# Altium schematic symbol library WE-VD.SchLib: 78 symbols (part 1 of 2)
Pins are listed as number, name and electrical type; pins without a type are passive.

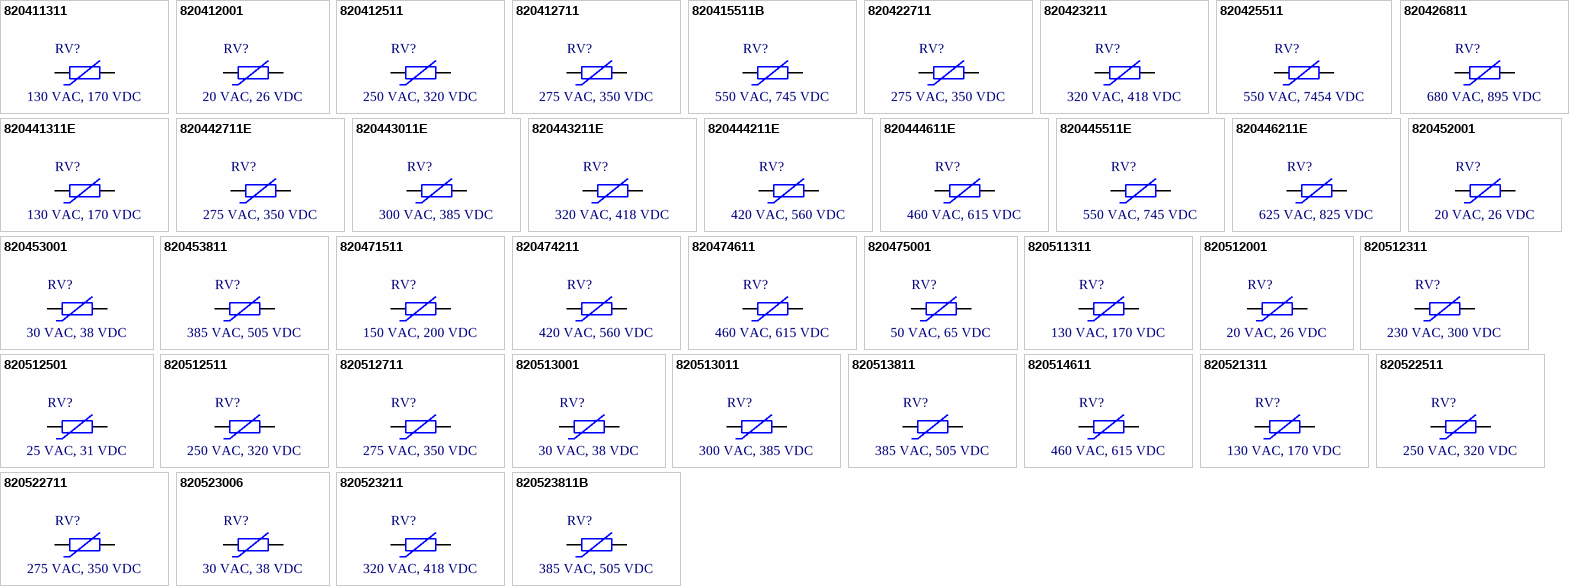
[diagram p0: symbols 820411311 to 820523811B]

## 820411311
designator RV?, comment 130 VAC, 170 VDC
WE-VD Disk Varistor, D12.5 x H15.5 mm, 130 VAC, 170 VDC; Manufacturer Part Number: 820411311; Manufacturer: Wurth Elektronik; Channel Input Capacitance: 410 pF; Clamping Voltage: 340 V; Energy Absorption: 35 J; Operating Voltage (AC): 130 V; Operating Voltage (DC): 170 V; Power Dissipation: 0.4 W; (Reverse) Breakdown Voltage: 200 V; (Reverse) Peak Pulse Current: 3500 A; Category: Surge Protection; Match Code: WE-VD; ComponentLink1Description: Website Link; ComponentLink1URL: https://www.we-online.com/redexpert/article/820411311?ad; ComponentLink2Description: Datasheet Link; ComponentLink2URL: https://www.we-online.com/redexpert/spec/820411311?ad; Mount: Through Hole; Min Operating Temperature: -40 °C; Max Operating Temperature: 105 °C; Packaging: Tape and Reel; Width: 4.6 mm; Height: 15.5 mm; Diameter: 12.5 mm
footprint D12.5W4.6H15.5P0.8
pins: 1, 2

## 820412001
designator RV?, comment 20 VAC, 26 VDC
WE-VD Disk Varistor, D12.5 x H15.5 mm, 20 VAC, 26 VDC; Manufacturer Part Number: 820412001; Manufacturer: Wurth Elektronik; Channel Input Capacitance: 4250 pF; Clamping Voltage: 65 V; Energy Absorption: 4.8 J; Operating Voltage (AC): 20 V; Operating Voltage (DC): 26 V; Power Dissipation: 0.05 W; (Reverse) Breakdown Voltage: 33 V; (Reverse) Peak Pulse Current: 1000 A; Category: Surge Protection; Match Code: WE-VD; ComponentLink1Description: Website Link; ComponentLink1URL: https://www.we-online.com/redexpert/article/820412001?ad; ComponentLink2Description: Datasheet Link; ComponentLink2URL: https://www.we-online.com/redexpert/spec/820412001?ad; Mount: Through Hole; Min Operating Temperature: -40 °C; Max Operating Temperature: 105 °C; Packaging: Tape and Reel; Width: 5.1 mm; Height: 15.5 mm; Diameter: 12.5 mm
footprint D12.5W5.1H15.5P0.8
pins: 1, 2

## 820412511
designator RV?, comment 250 VAC, 320 VDC
WE-VD Disk Varistor, D12.5 x H16 mm, 250 VAC, 320 VDC; Manufacturer Part Number: 820412511; Manufacturer: Wurth Elektronik; Channel Input Capacitance: 210 pF; Clamping Voltage: 650 V; Energy Absorption: 70 J; Operating Voltage (AC): 250 V; Operating Voltage (DC): 320 V; Power Dissipation: 0.4 W; (Reverse) Breakdown Voltage: 390 V; (Reverse) Peak Pulse Current: 3500 A; Category: Surge Protection; Match Code: WE-VD; ComponentLink1Description: Website Link; ComponentLink1URL: https://www.we-online.com/redexpert/article/820412511?ad; ComponentLink2Description: Datasheet Link; ComponentLink2URL: https://www.we-online.com/redexpert/spec/820412511?ad; Mount: Through Hole; Min Operating Temperature: -40 °C; Max Operating Temperature: 105 °C; Packaging: Tape and Reel; Width: 5.7 mm; Height: 16 mm; Diameter: 12.5 mm
footprint D12.5W5.7H16P1.1
pins: 1, 2

## 820412711
designator RV?, comment 275 VAC, 350 VDC
WE-VD Disk Varistor, D12.5 x H16 mm, 275 VAC, 350 VDC; Manufacturer Part Number: 820412711; Manufacturer: Wurth Elektronik; Channel Input Capacitance: 190 pF; Clamping Voltage: 710 V; Energy Absorption: 80 J; Operating Voltage (AC): 275 V; Operating Voltage (DC): 350 V; Power Dissipation: 0.4 W; (Reverse) Breakdown Voltage: 430 V; (Reverse) Peak Pulse Current: 3500 A; Category: Surge Protection; Match Code: WE-VD; ComponentLink1Description: Website Link; ComponentLink1URL: https://www.we-online.com/redexpert/article/820412711?ad; ComponentLink2Description: Datasheet Link; ComponentLink2URL: https://www.we-online.com/redexpert/spec/820412711?ad; Mount: Through Hole; Min Operating Temperature: -40 °C; Max Operating Temperature: 105 °C; Packaging: Tape and Reel; Width: 6.5 mm; Height: 16 mm; Diameter: 12.5 mm
footprint D12.5W6.5H16P1.3
pins: 1, 2

## 820415511B
designator RV?, comment 550 VAC, 745 VDC
WE-VD Disk Varistor, D12.5 x H16.5 mm, 550 VAC, 745 VDC; Manufacturer Part Number: 820415511B; Manufacturer: Wurth Elektronik; Channel Input Capacitance: 95 pF; Clamping Voltage: 1500 V; Energy Absorption: 127 J; Operating Voltage (AC): 550 V; Operating Voltage (DC): 745 V; Power Dissipation: 0.4 W; (Reverse) Breakdown Voltage: 910 V; (Reverse) Peak Pulse Current: 3500 A; Category: Surge Protection; Match Code: WE-VD; ComponentLink1Description: Website Link; ComponentLink1URL: https://www.we-online.com/redexpert/article/820415511B?ad; ComponentLink2Description: Datasheet Link; ComponentLink2URL: https://www.we-online.com/redexpert/spec/820415511B?ad; Mount: Through Hole; Min Operating Temperature: -40 °C; Max Operating Temperature: 105 °C; Packaging: Tape and Reel; Width: 9.4 mm; Height: 16.5 mm; Diameter: 12.5 mm
footprint D12.5W9.4H16.5P3.6
pins: 1, 2

## 820422711
designator RV?, comment 275 VAC, 350 VDC
WE-VD Disk Varistor, D23 x H26.5 mm, 275 VAC, 350 VDC; Manufacturer Part Number: 820422711; Manufacturer: Wurth Elektronik; Channel Input Capacitance: 860 pF; Clamping Voltage: 710 V; Energy Absorption: 303 J; Operating Voltage (AC): 275 V; Operating Voltage (DC): 350 V; Power Dissipation: 1 W; (Reverse) Breakdown Voltage: 430 V; (Reverse) Peak Pulse Current: 10000 A; Category: Surge Protection; Match Code: WE-VD; ComponentLink1Description: Website Link; ComponentLink1URL: https://www.we-online.com/redexpert/article/820422711?ad; ComponentLink2Description: Datasheet Link; ComponentLink2URL: https://www.we-online.com/redexpert/spec/820422711?ad; Mount: Through Hole; Min Operating Temperature: -40 °C; Max Operating Temperature: 105 °C; Packaging: Tape and Reel; Width: 7.2 mm; Height: 26.5 mm; Diameter: 23 mm
footprint D23W7.2H26.5P1.1
pins: 1, 2

## 820423211
designator RV?, comment 320 VAC, 418 VDC
WE-VD Disk Varistor, D23 x H27 mm, 320 VAC, 418 VDC; Manufacturer Part Number: 820423211; Manufacturer: Wurth Elektronik; Channel Input Capacitance: 760 pF; Clamping Voltage: 842 V; Energy Absorption: 382 J; Operating Voltage (AC): 320 V; Operating Voltage (DC): 418 V; Power Dissipation: 1 W; (Reverse) Breakdown Voltage: 510 V; (Reverse) Peak Pulse Current: 10000 A; Category: Surge Protection; Match Code: WE-VD; ComponentLink1Description: Website Link; ComponentLink1URL: https://www.we-online.com/redexpert/article/820423211?ad; ComponentLink2Description: Datasheet Link; ComponentLink2URL: https://www.we-online.com/redexpert/spec/820423211?ad; Mount: Through Hole; Min Operating Temperature: -40 °C; Max Operating Temperature: 105 °C; Packaging: Tape and Reel; Width: 7.7 mm; Height: 27 mm; Diameter: 23 mm
footprint D23W7.7H27P1.5
pins: 1, 2

## 820425511
designator RV?, comment 550 VAC, 7454 VDC
WE-VD Disk Varistor, D23 x H27 mm, 550 VAC, 7454 VDC; Manufacturer Part Number: 820425511; Manufacturer: Wurth Elektronik; Channel Input Capacitance: 430 pF; Clamping Voltage: 1500 V; Energy Absorption: 510 J; Operating Voltage (AC): 550 V; Operating Voltage (DC): 7454 V; Power Dissipation: 1 W; (Reverse) Breakdown Voltage: 910 V; (Reverse) Peak Pulse Current: 10000 A; Category: Surge Protection; Match Code: WE-VD; ComponentLink1Description: Website Link; ComponentLink1URL: https://www.we-online.com/redexpert/article/820425511?ad; ComponentLink2Description: Datasheet Link; ComponentLink2URL: https://www.we-online.com/redexpert/spec/820425511?ad; Mount: Through Hole; Min Operating Temperature: -40 °C; Max Operating Temperature: 105 °C; Packaging: Tape and Reel; Width: 10.1 mm; Height: 27 mm; Diameter: 23 mm
footprint D23W10.1H27P3.4
pins: 1, 2

## 820426811
designator RV?, comment 680 VAC, 895 VDC
WE-VD Disk Varistor, D23 x H27 mm, 680 VAC, 895 VDC; Manufacturer Part Number: 820426811; Manufacturer: Wurth Elektronik; Channel Input Capacitance: 360 pF; Clamping Voltage: 1815 V; Energy Absorption: 620 J; Operating Voltage (AC): 680 V; Operating Voltage (DC): 895 V; Power Dissipation: 1 W; (Reverse) Breakdown Voltage: 1100 V; (Reverse) Peak Pulse Current: 10000 A; Category: Surge Protection; Match Code: WE-VD; ComponentLink1Description: Website Link; ComponentLink1URL: https://www.we-online.com/redexpert/article/820426811?ad; ComponentLink2Description: Datasheet Link; ComponentLink2URL: https://www.we-online.com/redexpert/spec/820426811?ad; Mount: Through Hole; Min Operating Temperature: -40 °C; Max Operating Temperature: 105 °C; Packaging: Tape and Reel; Width: 11.2 mm; Height: 27 mm; Diameter: 23 mm
footprint D23W11.2H27P4.3
pins: 1, 2

## 820441311E
designator RV?, comment 130 VAC, 170 VDC
WE-VD Disk Varistor, D16.5 x H19.5 mm, 130 VAC, 170 VDC; Manufacturer Part Number: 820441311E; Manufacturer: Wurth Elektronik; Channel Input Capacitance: 840 pF; Clamping Voltage: 340 V; Energy Absorption: 70 J; Operating Voltage (AC): 130 V; Operating Voltage (DC): 170 V; Power Dissipation: 0.6 W; (Reverse) Breakdown Voltage: 200 V; (Reverse) Peak Pulse Current: 6000 A; Category: Surge Protection; Match Code: WE-VD; ComponentLink1Description: Website Link; ComponentLink1URL: https://www.we-online.com/redexpert/article/820441311E?ad; ComponentLink2Description: Datasheet Link; ComponentLink2URL: https://www.we-online.com/redexpert/spec/820441311E?ad; Mount: Through Hole; Min Operating Temperature: -40 °C; Max Operating Temperature: 105 °C; Packaging: Tape and Reel; Width: 4.8 mm; Height: 19.5 mm; Diameter: 16.5 mm
footprint D16.5W4.8H19.5P0.8
pins: 1, 2

## 820442711E
designator RV?, comment 275 VAC, 350 VDC
WE-VD Disk Varistor, D16.5 x H20 mm, 275 VAC, 350 VDC; Manufacturer Part Number: 820442711E; Manufacturer: Wurth Elektronik; Channel Input Capacitance: 450 pF; Clamping Voltage: 710 V; Energy Absorption: 155 J; Operating Voltage (AC): 275 V; Operating Voltage (DC): 350 V; Power Dissipation: 0.6 W; (Reverse) Breakdown Voltage: 430 V; (Reverse) Peak Pulse Current: 6000 A; Category: Surge Protection; Match Code: WE-VD; ComponentLink1Description: Website Link; ComponentLink1URL: https://www.we-online.com/redexpert/article/820442711E?ad; ComponentLink2Description: Datasheet Link; ComponentLink2URL: https://www.we-online.com/redexpert/spec/820442711E?ad; Mount: Through Hole; Min Operating Temperature: -40 °C; Max Operating Temperature: 105 °C; Packaging: Tape and Reel; Width: 6.7 mm; Height: 20 mm; Diameter: 16.5 mm
footprint D16.5W6.7H20P1.3
pins: 1, 2

## 820443011E
designator RV?, comment 300 VAC, 385 VDC
WE-VD Disk Varistor, D16.5 x H20 mm, 300 VAC, 385 VDC; Manufacturer Part Number: 820443011E; Manufacturer: Wurth Elektronik; Channel Input Capacitance: 420 pF; Clamping Voltage: 775 V; Energy Absorption: 175 J; Operating Voltage (AC): 300 V; Operating Voltage (DC): 385 V; Power Dissipation: 0.6 W; (Reverse) Breakdown Voltage: 470 V; (Reverse) Peak Pulse Current: 6000 A; Category: Surge Protection; Match Code: WE-VD; ComponentLink1Description: Website Link; ComponentLink1URL: https://www.we-online.com/redexpert/article/820443011E?ad; ComponentLink2Description: Datasheet Link; ComponentLink2URL: https://www.we-online.com/redexpert/spec/820443011E?ad; Mount: Through Hole; Min Operating Temperature: -40 °C; Max Operating Temperature: 105 °C; Packaging: Tape and Reel; Width: 7 mm; Height: 20 mm; Diameter: 16.5 mm
footprint D16.5W7H20P1.5
pins: 1, 2

## 820443211E
designator RV?, comment 320 VAC, 418 VDC
WE-VD Disk Varistor, D16.5 x H20.5 mm, 320 VAC, 418 VDC; Manufacturer Part Number: 820443211E; Manufacturer: Wurth Elektronik; Channel Input Capacitance: 370 pF; Clamping Voltage: 842 V; Energy Absorption: 190 J; Operating Voltage (AC): 320 V; Operating Voltage (DC): 418 V; Power Dissipation: 0.6 W; (Reverse) Breakdown Voltage: 510 V; (Reverse) Peak Pulse Current: 6000 A; Category: Surge Protection; Match Code: WE-VD; ComponentLink1Description: Website Link; ComponentLink1URL: https://www.we-online.com/redexpert/article/820443211E?ad; ComponentLink2Description: Datasheet Link; ComponentLink2URL: https://www.we-online.com/redexpert/spec/820443211E?ad; Mount: Through Hole; Min Operating Temperature: -40 °C; Max Operating Temperature: 105 °C; Packaging: Tape and Reel; Width: 7.2 mm; Height: 20.5 mm; Diameter: 16.5 mm
footprint D16.5W7.2H20.5P1.6
pins: 1, 2

## 820444211E
designator RV?, comment 420 VAC, 560 VDC
WE-VD Disk Varistor, D16.5 x H20.5 mm, 420 VAC, 560 VDC; Manufacturer Part Number: 820444211E; Manufacturer: Wurth Elektronik; Channel Input Capacitance: 290 pF; Clamping Voltage: 1120 V; Energy Absorption: 225 J; Operating Voltage (AC): 420 V; Operating Voltage (DC): 560 V; Power Dissipation: 0.6 W; (Reverse) Breakdown Voltage: 680 V; (Reverse) Peak Pulse Current: 6000 A; Category: Surge Protection; Match Code: WE-VD; ComponentLink1Description: Website Link; ComponentLink1URL: https://www.we-online.com/redexpert/article/820444211E?ad; ComponentLink2Description: Datasheet Link; ComponentLink2URL: https://www.we-online.com/redexpert/spec/820444211E?ad; Mount: Through Hole; Min Operating Temperature: -40 °C; Max Operating Temperature: 105 °C; Packaging: Tape and Reel; Width: 8.2 mm; Height: 20.5 mm; Diameter: 16.5 mm
footprint D16.5W8.2H20.5P2.5
pins: 1, 2

## 820444611E
designator RV?, comment 460 VAC, 615 VDC
WE-VD Disk Varistor, D16.5 x H20.5 mm, 460 VAC, 615 VDC; Manufacturer Part Number: 820444611E; Manufacturer: Wurth Elektronik; Channel Input Capacitance: 270 pF; Clamping Voltage: 1240 V; Energy Absorption: 230 J; Operating Voltage (AC): 460 V; Operating Voltage (DC): 615 V; Power Dissipation: 0.6 W; (Reverse) Breakdown Voltage: 750 V; (Reverse) Peak Pulse Current: 6000 A; Category: Surge Protection; Match Code: WE-VD; ComponentLink1Description: Website Link; ComponentLink1URL: https://www.we-online.com/redexpert/article/820444611E?ad; ComponentLink2Description: Datasheet Link; ComponentLink2URL: https://www.we-online.com/redexpert/spec/820444611E?ad; Mount: Through Hole; Min Operating Temperature: -40 °C; Max Operating Temperature: 105 °C; Packaging: Tape and Reel; Width: 8.6 mm; Height: 20.5 mm; Diameter: 16.5 mm
footprint D16.5W8.6H20.5P2.8
pins: 1, 2

## 820445511E
designator RV?, comment 550 VAC, 745 VDC
WE-VD Disk Varistor, D16.5 x H20.5 mm, 550 VAC, 745 VDC; Manufacturer Part Number: 820445511E; Manufacturer: Wurth Elektronik; Channel Input Capacitance: 240 pF; Clamping Voltage: 1500 V; Energy Absorption: 255 J; Operating Voltage (AC): 550 V; Operating Voltage (DC): 745 V; Power Dissipation: 0.6 W; (Reverse) Breakdown Voltage: 910 V; (Reverse) Peak Pulse Current: 6000 A; Category: Surge Protection; Match Code: WE-VD; ComponentLink1Description: Website Link; ComponentLink1URL: https://www.we-online.com/redexpert/article/820445511E?ad; ComponentLink2Description: Datasheet Link; ComponentLink2URL: https://www.we-online.com/redexpert/spec/820445511E?ad; Mount: Through Hole; Min Operating Temperature: -40 °C; Max Operating Temperature: 105 °C; Packaging: Tape and Reel; Width: 9.6 mm; Height: 20.5 mm; Diameter: 16.5 mm
footprint D16.5W9.6H20.5P3.6
pins: 1, 2

## 820446211E
designator RV?, comment 625 VAC, 825 VDC
WE-VD Disk Varistor, D16.5 x H20.5 mm, 625 VAC, 825 VDC; Manufacturer Part Number: 820446211E; Manufacturer: Wurth Elektronik; Channel Input Capacitance: 200 pF; Clamping Voltage: 1650 V; Energy Absorption: 283 J; Operating Voltage (AC): 625 V; Operating Voltage (DC): 825 V; Power Dissipation: 0.6 W; (Reverse) Breakdown Voltage: 1000 V; (Reverse) Peak Pulse Current: 6000 A; Category: Surge Protection; Match Code: WE-VD; ComponentLink1Description: Website Link; ComponentLink1URL: https://www.we-online.com/redexpert/article/820446211E?ad; ComponentLink2Description: Datasheet Link; ComponentLink2URL: https://www.we-online.com/redexpert/spec/820446211E?ad; Mount: Through Hole; Min Operating Temperature: -40 °C; Max Operating Temperature: 105 °C; Packaging: Tape and Reel; Width: 10.1 mm; Height: 20.5 mm; Diameter: 16.5 mm
footprint D16.5W10.1H20.5P4
pins: 1, 2

## 820452001
designator RV?, comment 20 VAC, 26 VDC
WE-VD Disk Varistor, D7.5 x H10.5 mm, 20 VAC, 26 VDC; Manufacturer Part Number: 820452001; Manufacturer: Wurth Elektronik; Channel Input Capacitance: 880 pF; Clamping Voltage: 73 V; Energy Absorption: 1.3 J; Operating Voltage (AC): 20 V; Operating Voltage (DC): 26 V; Power Dissipation: 0.01 W; (Reverse) Breakdown Voltage: 33 V; (Reverse) Peak Pulse Current: 250 A; Category: Surge Protection; Match Code: WE-VD; ComponentLink1Description: Website Link; ComponentLink1URL: https://www.we-online.com/redexpert/article/820452001?ad; ComponentLink2Description: Datasheet Link; ComponentLink2URL: https://www.we-online.com/redexpert/spec/820452001?ad; Mount: Through Hole; Min Operating Temperature: -40 °C; Max Operating Temperature: 105 °C; Packaging: Tape and Reel; Width: 4.7 mm; Height: 10.5 mm; Diameter: 7.5 mm
footprint D7.5W4.7H10.5P0.8
pins: 1, 2

## 820453001
designator RV?, comment 30 VAC, 38 VDC
WE-VD Disk Varistor, D7.5 x H10.5 mm, 30 VAC, 38 VDC; Manufacturer Part Number: 820453001; Manufacturer: Wurth Elektronik; Channel Input Capacitance: 720 pF; Clamping Voltage: 104 V; Energy Absorption: 1.8 J; Operating Voltage (AC): 30 V; Operating Voltage (DC): 38 V; Power Dissipation: 0.01 W; (Reverse) Breakdown Voltage: 47 V; (Reverse) Peak Pulse Current: 250 A; Category: Surge Protection; Match Code: WE-VD; ComponentLink1Description: Website Link; ComponentLink1URL: https://www.we-online.com/redexpert/article/820453001?ad; ComponentLink2Description: Datasheet Link; ComponentLink2URL: https://www.we-online.com/redexpert/spec/820453001?ad; Mount: Through Hole; Min Operating Temperature: -40 °C; Max Operating Temperature: 105 °C; Packaging: Tape and Reel; Width: 5 mm; Height: 10.5 mm; Diameter: 7.5 mm
footprint D7.5W5H10.5P0.8
pins: 1, 2

## 820453811
designator RV?, comment 385 VAC, 505 VDC
WE-VD Disk Varistor, D7.5 x H11.5 mm, 385 VAC, 505 VDC; Manufacturer Part Number: 820453811; Manufacturer: Wurth Elektronik; Channel Input Capacitance: 45 pF; Clamping Voltage: 1050 V; Energy Absorption: 27 J; Operating Voltage (AC): 385 V; Operating Voltage (DC): 505 V; Power Dissipation: 0.1 W; (Reverse) Breakdown Voltage: 620 V; (Reverse) Peak Pulse Current: 800 A; Category: Surge Protection; Match Code: WE-VD; ComponentLink1Description: Website Link; ComponentLink1URL: https://www.we-online.com/redexpert/article/820453811?ad; ComponentLink2Description: Datasheet Link; ComponentLink2URL: https://www.we-online.com/redexpert/spec/820453811?ad; Mount: Through Hole; Min Operating Temperature: -40 °C; Max Operating Temperature: 105 °C; Packaging: Tape and Reel; Width: 7.2 mm; Height: 11.5 mm; Diameter: 7.5 mm
footprint D7.5W7.2H11.5P2.4
pins: 1, 2

## 820471511
designator RV?, comment 150 VAC, 200 VDC
WE-VD Disk Varistor, D9 x H12 mm, 150 VAC, 200 VDC; Manufacturer Part Number: 820471511; Manufacturer: Wurth Elektronik; Channel Input Capacitance: 180 pF; Clamping Voltage: 395 V; Energy Absorption: 21 J; Operating Voltage (AC): 150 V; Operating Voltage (DC): 200 V; Power Dissipation: 0.25 W; (Reverse) Breakdown Voltage: 240 V; (Reverse) Peak Pulse Current: 1750 A; Category: Surge Protection; Match Code: WE-VD; ComponentLink1Description: Website Link; ComponentLink1URL: https://www.we-online.com/redexpert/article/820471511?ad; ComponentLink2Description: Datasheet Link; ComponentLink2URL: https://www.we-online.com/redexpert/spec/820471511?ad; Mount: Through Hole; Min Operating Temperature: -40 °C; Max Operating Temperature: 105 °C; Packaging: Tape and Reel; Width: 4.4 mm; Height: 12 mm; Diameter: 9 mm
footprint D9W4.4H12P0.8
pins: 1, 2

## 820474211
designator RV?, comment 420 VAC, 560 VDC
WE-VD Disk Varistor, D9 x H13 mm, 420 VAC, 560 VDC; Manufacturer Part Number: 820474211; Manufacturer: Wurth Elektronik; Channel Input Capacitance: 78 pF; Clamping Voltage: 1120 V; Energy Absorption: 56 J; Operating Voltage (AC): 420 V; Operating Voltage (DC): 560 V; Power Dissipation: 0.25 W; (Reverse) Breakdown Voltage: 680 V; (Reverse) Peak Pulse Current: 1750 A; Category: Surge Protection; Match Code: WE-VD; ComponentLink1Description: Website Link; ComponentLink1URL: https://www.we-online.com/redexpert/article/820474211?ad; ComponentLink2Description: Datasheet Link; ComponentLink2URL: https://www.we-online.com/redexpert/spec/820474211?ad; Mount: Through Hole; Min Operating Temperature: -40 °C; Max Operating Temperature: 105 °C; Packaging: Tape and Reel; Width: 7.5 mm; Height: 13 mm; Diameter: 9 mm
footprint D9W7.5H13P2.7
pins: 1, 2

## 820474611
designator RV?, comment 460 VAC, 615 VDC
WE-VD Disk Varistor, D9 x H13 mm, 460 VAC, 615 VDC; Manufacturer Part Number: 820474611; Manufacturer: Wurth Elektronik; Channel Input Capacitance: 75 pF; Clamping Voltage: 1240 V; Energy Absorption: 58 J; Operating Voltage (AC): 460 V; Operating Voltage (DC): 615 V; Power Dissipation: 0.25 W; (Reverse) Breakdown Voltage: 750 V; (Reverse) Peak Pulse Current: 1750 A; Category: Surge Protection; Match Code: WE-VD; ComponentLink1Description: Website Link; ComponentLink1URL: https://www.we-online.com/redexpert/article/820474611?ad; ComponentLink2Description: Datasheet Link; ComponentLink2URL: https://www.we-online.com/redexpert/spec/820474611?ad; Mount: Through Hole; Min Operating Temperature: -40 °C; Max Operating Temperature: 105 °C; Packaging: Tape and Reel; Width: 7.9 mm; Height: 13 mm; Diameter: 9 mm
footprint D9W7.9H13P3
pins: 1, 2

## 820475001
designator RV?, comment 50 VAC, 65 VDC
WE-VD Disk Varistor, D9 x H12 mm, 50 VAC, 65 VDC; Manufacturer Part Number: 820475001; Manufacturer: Wurth Elektronik; Channel Input Capacitance: 640 pF; Clamping Voltage: 135 V; Energy Absorption: 7 J; Operating Voltage (AC): 50 V; Operating Voltage (DC): 65 V; Power Dissipation: 0.25 W; (Reverse) Breakdown Voltage: 82 V; (Reverse) Peak Pulse Current: 1750 A; Category: Surge Protection; Match Code: WE-VD; ComponentLink1Description: Website Link; ComponentLink1URL: https://www.we-online.com/redexpert/article/820475001?ad; ComponentLink2Description: Datasheet Link; ComponentLink2URL: https://www.we-online.com/redexpert/spec/820475001?ad; Mount: Through Hole; Min Operating Temperature: -40 °C; Max Operating Temperature: 105 °C; Packaging: Tape and Reel; Width: 3.8 mm; Height: 12 mm; Diameter: 9 mm
footprint D9W3.8H12P0.8
pins: 1, 2

## 820511311
designator RV?, comment 130 VAC, 170 VDC
WE-VD Disk Varistor, D12.5 x H15.5 mm, 130 VAC, 170 VDC; Manufacturer Part Number: 820511311; Manufacturer: Wurth Elektronik; Channel Input Capacitance: 410 pF; Clamping Voltage: 340 V; Energy Absorption: 28.5 J; Operating Voltage (AC): 130 V; Operating Voltage (DC): 170 V; Power Dissipation: 0.4 W; (Reverse) Breakdown Voltage: 200 V; (Reverse) Peak Pulse Current: 2500 A; Category: Surge Protection; Match Code: WE-VD; ComponentLink1Description: Website Link; ComponentLink1URL: https://www.we-online.com/redexpert/article/820511311?ad; ComponentLink2Description: Datasheet Link; ComponentLink2URL: https://www.we-online.com/redexpert/spec/820511311?ad; Mount: Through Hole; Min Operating Temperature: -40 °C; Max Operating Temperature: 105 °C; Packaging: Tape and Reel; Width: 4.6 mm; Height: 15.5 mm; Diameter: 12.5 mm
footprint D12.5W4.6H15.5P0.8
pins: 1, 2

## 820512001
designator RV?, comment 20 VAC, 26 VDC
WE-VD Disk Varistor, D12.5 x H15.5 mm, 20 VAC, 26 VDC; Manufacturer Part Number: 820512001; Manufacturer: Wurth Elektronik; Channel Input Capacitance: 4250 pF; Clamping Voltage: 65 V; Energy Absorption: 4.4 J; Operating Voltage (AC): 20 V; Operating Voltage (DC): 26 V; Power Dissipation: 0.05 W; (Reverse) Breakdown Voltage: 33 V; (Reverse) Peak Pulse Current: 500 A; Category: Surge Protection; Match Code: WE-VD; ComponentLink1Description: Website Link; ComponentLink1URL: https://www.we-online.com/redexpert/article/820512001?ad; ComponentLink2Description: Datasheet Link; ComponentLink2URL: https://www.we-online.com/redexpert/spec/820512001?ad; Mount: Through Hole; Min Operating Temperature: -40 °C; Max Operating Temperature: 105 °C; Packaging: Tape and Reel; Width: 5.1 mm; Height: 15.5 mm; Diameter: 12.5 mm
footprint D12.5W5.1H15.5P0.8
pins: 1, 2

## 820512311
designator RV?, comment 230 VAC, 300 VDC
WE-VD Disk Varistor, D12.5 x H15.5 mm, 230 VAC, 300 VDC; Manufacturer Part Number: 820512311; Manufacturer: Wurth Elektronik; Channel Input Capacitance: 230 pF; Clamping Voltage: 595 V; Energy Absorption: 52 J; Operating Voltage (AC): 230 V; Operating Voltage (DC): 300 V; Power Dissipation: 0.4 W; (Reverse) Breakdown Voltage: 360 V; (Reverse) Peak Pulse Current: 2500 A; Category: Surge Protection; Match Code: WE-VD; ComponentLink1Description: Website Link; ComponentLink1URL: https://www.we-online.com/redexpert/article/820512311?ad; ComponentLink2Description: Datasheet Link; ComponentLink2URL: https://www.we-online.com/redexpert/spec/820512311?ad; Mount: Through Hole; Min Operating Temperature: -40 °C; Max Operating Temperature: 105 °C; Packaging: Tape and Reel; Width: 5.5 mm; Height: 15.5 mm; Diameter: 12.5 mm
footprint D12.5W5.5H15.5P0.9
pins: 1, 2

## 820512501
designator RV?, comment 25 VAC, 31 VDC
WE-VD Disk Varistor, D12.5 x H15.5 mm, 25 VAC, 31 VDC; Manufacturer Part Number: 820512501; Manufacturer: Wurth Elektronik; Channel Input Capacitance: 3660 pF; Clamping Voltage: 77 V; Energy Absorption: 4.7 J; Operating Voltage (AC): 25 V; Operating Voltage (DC): 31 V; Power Dissipation: 0.05 W; (Reverse) Breakdown Voltage: 39 V; (Reverse) Peak Pulse Current: 500 A; Category: Surge Protection; Match Code: WE-VD; ComponentLink1Description: Website Link; ComponentLink1URL: https://www.we-online.com/redexpert/article/820512501?ad; ComponentLink2Description: Datasheet Link; ComponentLink2URL: https://www.we-online.com/redexpert/spec/820512501?ad; Mount: Through Hole; Min Operating Temperature: -40 °C; Max Operating Temperature: 105 °C; Packaging: Tape and Reel; Width: 5.1 mm; Height: 15.5 mm; Diameter: 12.5 mm
footprint D12.5W5.1H15.5P0.8
pins: 1, 2

## 820512511
designator RV?, comment 250 VAC, 320 VDC
WE-VD Disk Varistor, D12.5 x H16 mm, 250 VAC, 320 VDC; Manufacturer Part Number: 820512511; Manufacturer: Wurth Elektronik; Channel Input Capacitance: 210 pF; Clamping Voltage: 650 V; Energy Absorption: 60 J; Operating Voltage (AC): 250 V; Operating Voltage (DC): 320 V; Power Dissipation: 0.4 W; (Reverse) Breakdown Voltage: 390 V; (Reverse) Peak Pulse Current: 2500 A; Category: Surge Protection; Match Code: WE-VD; ComponentLink1Description: Website Link; ComponentLink1URL: https://www.we-online.com/redexpert/article/820512511?ad; ComponentLink2Description: Datasheet Link; ComponentLink2URL: https://www.we-online.com/redexpert/spec/820512511?ad; Mount: Through Hole; Min Operating Temperature: -40 °C; Max Operating Temperature: 105 °C; Packaging: Tape and Reel; Width: 5.7 mm; Height: 16 mm; Diameter: 12.5 mm
footprint D12.5W5.7H16P1.1
pins: 1, 2

## 820512711
designator RV?, comment 275 VAC, 350 VDC
WE-VD Disk Varistor, D12.5 x H16 mm, 275 VAC, 350 VDC; Manufacturer Part Number: 820512711; Manufacturer: Wurth Elektronik; Channel Input Capacitance: 190 pF; Clamping Voltage: 710 V; Energy Absorption: 66 J; Operating Voltage (AC): 275 V; Operating Voltage (DC): 350 V; Power Dissipation: 0.4 W; (Reverse) Breakdown Voltage: 430 V; (Reverse) Peak Pulse Current: 2500 A; Category: Surge Protection; Match Code: WE-VD; ComponentLink1Description: Website Link; ComponentLink1URL: https://www.we-online.com/redexpert/article/820512711?ad; ComponentLink2Description: Datasheet Link; ComponentLink2URL: https://www.we-online.com/redexpert/spec/820512711?ad; Mount: Through Hole; Min Operating Temperature: -40 °C; Max Operating Temperature: 105 °C; Packaging: Tape and Reel; Width: 6.5 mm; Height: 16 mm; Diameter: 12.5 mm
footprint D12.5W6.5H16P1.3
pins: 1, 2

## 820513001
designator RV?, comment 30 VAC, 38 VDC
WE-VD Disk Varistor, D12.5 x H15.5 mm, 30 VAC, 38 VDC; Manufacturer Part Number: 820513001; Manufacturer: Wurth Elektronik; Channel Input Capacitance: 3140 pF; Clamping Voltage: 93 V; Energy Absorption: 6 J; Operating Voltage (AC): 30 V; Operating Voltage (DC): 38 V; Power Dissipation: 0.05 W; (Reverse) Breakdown Voltage: 47 V; (Reverse) Peak Pulse Current: 500 A; Category: Surge Protection; Match Code: WE-VD; ComponentLink1Description: Website Link; ComponentLink1URL: https://www.we-online.com/redexpert/article/820513001?ad; ComponentLink2Description: Datasheet Link; ComponentLink2URL: https://www.we-online.com/redexpert/spec/820513001?ad; Mount: Through Hole; Min Operating Temperature: -40 °C; Max Operating Temperature: 105 °C; Packaging: Tape and Reel; Width: 5.5 mm; Height: 15.5 mm; Diameter: 12.5 mm
footprint D12.5W5.5H15.5P0.8
pins: 1, 2

## 820513011
designator RV?, comment 300 VAC, 385 VDC
WE-VD Disk Varistor, D12.5 x H16 mm, 300 VAC, 385 VDC; Manufacturer Part Number: 820513011; Manufacturer: Wurth Elektronik; Channel Input Capacitance: 190 pF; Clamping Voltage: 775 V; Energy Absorption: 70 J; Operating Voltage (AC): 300 V; Operating Voltage (DC): 385 V; Power Dissipation: 0.4 W; (Reverse) Breakdown Voltage: 470 V; (Reverse) Peak Pulse Current: 2500 A; Category: Surge Protection; Match Code: WE-VD; ComponentLink1Description: Website Link; ComponentLink1URL: https://www.we-online.com/redexpert/article/820513011?ad; ComponentLink2Description: Datasheet Link; ComponentLink2URL: https://www.we-online.com/redexpert/spec/820513011?ad; Mount: Through Hole; Min Operating Temperature: -40 °C; Max Operating Temperature: 105 °C; Packaging: Tape and Reel; Width: 6.8 mm; Height: 16 mm; Diameter: 12.5 mm
footprint D12.5W6.8H16P1.5
pins: 1, 2

## 820513811
designator RV?, comment 385 VAC, 505 VDC
WE-VD Disk Varistor, D12.5 x H16.5 mm, 385 VAC, 505 VDC; Manufacturer Part Number: 820513811; Manufacturer: Wurth Elektronik; Channel Input Capacitance: 160 pF; Clamping Voltage: 1025 V; Energy Absorption: 82 J; Operating Voltage (AC): 385 V; Operating Voltage (DC): 505 V; Power Dissipation: 0.4 W; (Reverse) Breakdown Voltage: 620 V; (Reverse) Peak Pulse Current: 2500 A; Category: Surge Protection; Match Code: WE-VD; ComponentLink1Description: Website Link; ComponentLink1URL: https://www.we-online.com/redexpert/article/820513811?ad; ComponentLink2Description: Datasheet Link; ComponentLink2URL: https://www.we-online.com/redexpert/spec/820513811?ad; Mount: Through Hole; Min Operating Temperature: -40 °C; Max Operating Temperature: 105 °C; Packaging: Tape and Reel; Width: 7.6 mm; Height: 16.5 mm; Diameter: 12.5 mm
footprint D12.5W7.6H16.5P2.2
pins: 1, 2

## 820514611
designator RV?, comment 460 VAC, 615 VDC
WE-VD Disk Varistor, D12.5 x H16.5 mm, 460 VAC, 615 VDC; Manufacturer Part Number: 820514611; Manufacturer: Wurth Elektronik; Channel Input Capacitance: 140 pF; Clamping Voltage: 1240 V; Energy Absorption: 90 J; Operating Voltage (AC): 460 V; Operating Voltage (DC): 615 V; Power Dissipation: 0.4 W; (Reverse) Breakdown Voltage: 750 V; (Reverse) Peak Pulse Current: 2500 A; Category: Surge Protection; Match Code: WE-VD; ComponentLink1Description: Website Link; ComponentLink1URL: https://www.we-online.com/redexpert/article/820514611?ad; ComponentLink2Description: Datasheet Link; ComponentLink2URL: https://www.we-online.com/redexpert/spec/820514611?ad; Mount: Through Hole; Min Operating Temperature: -40 °C; Max Operating Temperature: 105 °C; Packaging: Tape and Reel; Width: 8.4 mm; Height: 16.5 mm; Diameter: 12.5 mm
footprint D12.5W8.4H16.5P2.8
pins: 1, 2

## 820521311
designator RV?, comment 130 VAC, 170 VDC
WE-VD Disk Varistor, D23 x H26.5 mm, 130 VAC, 170 VDC; Manufacturer Part Number: 820521311; Manufacturer: Wurth Elektronik; Channel Input Capacitance: 1830 pF; Clamping Voltage: 340 V; Energy Absorption: 114 J; Operating Voltage (AC): 130 V; Operating Voltage (DC): 170 V; Power Dissipation: 1 W; (Reverse) Breakdown Voltage: 200 V; (Reverse) Peak Pulse Current: 6500 A; Category: Surge Protection; Match Code: WE-VD; ComponentLink1Description: Website Link; ComponentLink1URL: https://www.we-online.com/redexpert/article/820521311?ad; ComponentLink2Description: Datasheet Link; ComponentLink2URL: https://www.we-online.com/redexpert/spec/820521311?ad; Mount: Through Hole; Min Operating Temperature: -40 °C; Max Operating Temperature: 105 °C; Packaging: Tape and Reel; Width: 5.3 mm; Height: 26.5 mm; Diameter: 23 mm
footprint D23W5.3H26.5P0.8
pins: 1, 2

## 820522511
designator RV?, comment 250 VAC, 320 VDC
WE-VD Disk Varistor, D23 x H26.5 mm, 250 VAC, 320 VDC; Manufacturer Part Number: 820522511; Manufacturer: Wurth Elektronik; Channel Input Capacitance: 980 pF; Clamping Voltage: 650 V; Energy Absorption: 240 J; Operating Voltage (AC): 250 V; Operating Voltage (DC): 320 V; Power Dissipation: 1 W; (Reverse) Breakdown Voltage: 390 V; (Reverse) Peak Pulse Current: 6500 A; Category: Surge Protection; Match Code: WE-VD; ComponentLink1Description: Website Link; ComponentLink1URL: https://www.we-online.com/redexpert/article/820522511?ad; ComponentLink2Description: Datasheet Link; ComponentLink2URL: https://www.we-online.com/redexpert/spec/820522511?ad; Mount: Through Hole; Min Operating Temperature: -40 °C; Max Operating Temperature: 105 °C; Packaging: Tape and Reel; Width: 6.4 mm; Height: 26.5 mm; Diameter: 23 mm
footprint D23W6.4H26.5P0.9
pins: 1, 2

## 820522711
designator RV?, comment 275 VAC, 350 VDC
WE-VD Disk Varistor, D23 x H26.5 mm, 275 VAC, 350 VDC; Manufacturer Part Number: 820522711; Manufacturer: Wurth Elektronik; Channel Input Capacitance: 860 pF; Clamping Voltage: 710 V; Energy Absorption: 264 J; Operating Voltage (AC): 275 V; Operating Voltage (DC): 350 V; Power Dissipation: 1 W; (Reverse) Breakdown Voltage: 430 V; (Reverse) Peak Pulse Current: 6500 A; Category: Surge Protection; Match Code: WE-VD; ComponentLink1Description: Website Link; ComponentLink1URL: https://www.we-online.com/redexpert/article/820522711?ad; ComponentLink2Description: Datasheet Link; ComponentLink2URL: https://www.we-online.com/redexpert/spec/820522711?ad; Mount: Through Hole; Min Operating Temperature: -40 °C; Max Operating Temperature: 105 °C; Packaging: Tape and Reel; Width: 7.2 mm; Height: 26.5 mm; Diameter: 23 mm
footprint D23W7.2H26.5P1.1
pins: 1, 2

## 820523006
designator RV?, comment 30 VAC, 38 VDC
WE-VD Disk Varistor, D23 x H26.5 mm, 30 VAC, 38 VDC; Manufacturer Part Number: 820523006; Manufacturer: Wurth Elektronik; Channel Input Capacitance: 12100 pF; Clamping Voltage: 93 V; Energy Absorption: 17 J; Operating Voltage (AC): 30 V; Operating Voltage (DC): 38 V; Power Dissipation: 0.2 W; (Reverse) Breakdown Voltage: 47 V; (Reverse) Peak Pulse Current: 2000 A; Category: Surge Protection; Match Code: WE-VD; ComponentLink1Description: Website Link; ComponentLink1URL: https://www.we-online.com/redexpert/article/820523006?ad; ComponentLink2Description: Datasheet Link; ComponentLink2URL: https://www.we-online.com/redexpert/spec/820523006?ad; Mount: Through Hole; Min Operating Temperature: -40 °C; Max Operating Temperature: 105 °C; Packaging: Tape and Reel; Width: 5.6 mm; Height: 26.5 mm; Diameter: 23 mm
footprint D23W5.6H26.5P0.8
pins: 1, 2

## 820523211
designator RV?, comment 320 VAC, 418 VDC
WE-VD Disk Varistor, D23 x H27 mm, 320 VAC, 418 VDC; Manufacturer Part Number: 820523211; Manufacturer: Wurth Elektronik; Channel Input Capacitance: 760 pF; Clamping Voltage: 842 V; Energy Absorption: 296 J; Operating Voltage (AC): 320 V; Operating Voltage (DC): 418 V; Power Dissipation: 1 W; (Reverse) Breakdown Voltage: 510 V; (Reverse) Peak Pulse Current: 6500 A; Category: Surge Protection; Match Code: WE-VD; ComponentLink1Description: Website Link; ComponentLink1URL: https://www.we-online.com/redexpert/article/820523211?ad; ComponentLink2Description: Datasheet Link; ComponentLink2URL: https://www.we-online.com/redexpert/spec/820523211?ad; Mount: Through Hole; Min Operating Temperature: -40 °C; Max Operating Temperature: 105 °C; Packaging: Tape and Reel; Width: 7.7 mm; Height: 27 mm; Diameter: 23 mm
footprint D23W7.7H27P1.5
pins: 1, 2

## 820523811B
designator RV?, comment 385 VAC, 505 VDC
WE-VD Disk Varistor, D23 x H27 mm, 385 VAC, 505 VDC; Manufacturer Part Number: 820523811B; Manufacturer: Wurth Elektronik; Channel Input Capacitance: 600 pF; Clamping Voltage: 1025 V; Energy Absorption: 328 J; Operating Voltage (AC): 385 V; Operating Voltage (DC): 505 V; Power Dissipation: 1 W; (Reverse) Breakdown Voltage: 620 V; (Reverse) Peak Pulse Current: 6500 A; Category: Surge Protection; Match Code: WE-VD; ComponentLink1Description: Website Link; ComponentLink1URL: https://www.we-online.com/redexpert/article/820523811B?ad; ComponentLink2Description: Datasheet Link; ComponentLink2URL: https://www.we-online.com/redexpert/spec/820523811B?ad; Mount: Through Hole; Min Operating Temperature: -40 °C; Max Operating Temperature: 105 °C; Packaging: Tape and Reel; Width: 8.3 mm; Height: 27 mm; Diameter: 23 mm
footprint D23W8.3H27P2
pins: 1, 2

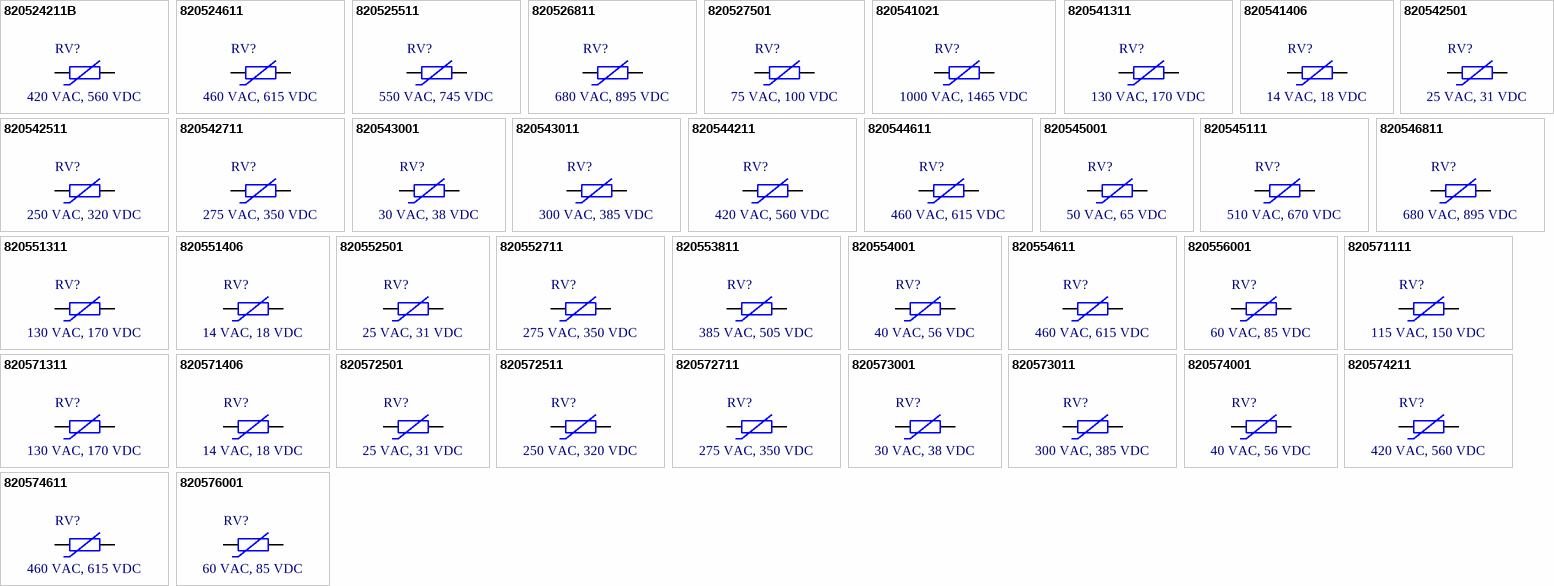
[diagram p1: symbols 820524211B to 820576001]

## 820524211B
designator RV?, comment 420 VAC, 560 VDC
WE-VD Disk Varistor, D23 x H27 mm, 420 VAC, 560 VDC; Manufacturer Part Number: 820524211B; Manufacturer: Wurth Elektronik; Channel Input Capacitance: 570 pF; Clamping Voltage: 1120 V; Energy Absorption: 344 J; Operating Voltage (AC): 420 V; Operating Voltage (DC): 560 V; Power Dissipation: 1 W; (Reverse) Breakdown Voltage: 680 V; (Reverse) Peak Pulse Current: 6500 A; Category: Surge Protection; Match Code: WE-VD; ComponentLink1Description: Website Link; ComponentLink1URL: https://www.we-online.com/redexpert/article/820524211B?ad; ComponentLink2Description: Datasheet Link; ComponentLink2URL: https://www.we-online.com/redexpert/spec/820524211B?ad; Mount: Through Hole; Min Operating Temperature: -40 °C; Max Operating Temperature: 105 °C; Packaging: Tape and Reel; Width: 8.7 mm; Height: 27 mm; Diameter: 23 mm
footprint D23W8.7H27P2.3
pins: 1, 2

## 820524611
designator RV?, comment 460 VAC, 615 VDC
WE-VD Disk Varistor, D23 x H27 mm, 460 VAC, 615 VDC; Manufacturer Part Number: 820524611; Manufacturer: Wurth Elektronik; Channel Input Capacitance: 520 pF; Clamping Voltage: 1240 V; Energy Absorption: 360 J; Operating Voltage (AC): 460 V; Operating Voltage (DC): 615 V; Power Dissipation: 1 W; (Reverse) Breakdown Voltage: 750 V; (Reverse) Peak Pulse Current: 6500 A; Category: Surge Protection; Match Code: WE-VD; ComponentLink1Description: Website Link; ComponentLink1URL: https://www.we-online.com/redexpert/article/820524611?ad; ComponentLink2Description: Datasheet Link; ComponentLink2URL: https://www.we-online.com/redexpert/spec/820524611?ad; Mount: Through Hole; Min Operating Temperature: -40 °C; Max Operating Temperature: 105 °C; Packaging: Tape and Reel; Width: 9.1 mm; Height: 27 mm; Diameter: 23 mm
footprint D23W9.1H27P2.6
pins: 1, 2

## 820525511
designator RV?, comment 550 VAC, 745 VDC
WE-VD Disk Varistor, D23 x H27 mm, 550 VAC, 745 VDC; Manufacturer Part Number: 820525511; Manufacturer: Wurth Elektronik; Channel Input Capacitance: 430 pF; Clamping Voltage: 1500 V; Energy Absorption: 408 J; Operating Voltage (AC): 550 V; Operating Voltage (DC): 745 V; Power Dissipation: 1 W; (Reverse) Breakdown Voltage: 910 V; (Reverse) Peak Pulse Current: 6500 A; Category: Surge Protection; Match Code: WE-VD; ComponentLink1Description: Website Link; ComponentLink1URL: https://www.we-online.com/redexpert/article/820525511?ad; ComponentLink2Description: Datasheet Link; ComponentLink2URL: https://www.we-online.com/redexpert/spec/820525511?ad; Mount: Through Hole; Min Operating Temperature: -40 °C; Max Operating Temperature: 105 °C; Packaging: Tape and Reel; Width: 10.1 mm; Height: 27 mm; Diameter: 23 mm
footprint D23W10.1H27P3.4
pins: 1, 2

## 820526811
designator RV?, comment 680 VAC, 895 VDC
WE-VD Disk Varistor, D23 x H27 mm, 680 VAC, 895 VDC; Manufacturer Part Number: 820526811; Manufacturer: Wurth Elektronik; Channel Input Capacitance: 360 pF; Clamping Voltage: 1815 V; Energy Absorption: 496 J; Operating Voltage (AC): 680 V; Operating Voltage (DC): 895 V; Power Dissipation: 1 W; (Reverse) Breakdown Voltage: 1100 V; (Reverse) Peak Pulse Current: 6500 A; Category: Surge Protection; Match Code: WE-VD; ComponentLink1Description: Website Link; ComponentLink1URL: https://www.we-online.com/redexpert/article/820526811?ad; ComponentLink2Description: Datasheet Link; ComponentLink2URL: https://www.we-online.com/redexpert/spec/820526811?ad; Mount: Through Hole; Min Operating Temperature: -40 °C; Max Operating Temperature: 105 °C; Packaging: Tape and Reel; Width: 11.2 mm; Height: 27 mm; Diameter: 23 mm
footprint D23W11.2H27P4.3
pins: 1, 2

## 820527501
designator RV?, comment 75 VAC, 100 VDC
WE-VD Disk Varistor, D23 x H26.5 mm, 75 VAC, 100 VDC; Manufacturer Part Number: 820527501; Manufacturer: Wurth Elektronik; Channel Input Capacitance: 3800 pF; Clamping Voltage: 200 V; Energy Absorption: 64 J; Operating Voltage (AC): 75 V; Operating Voltage (DC): 100 V; Power Dissipation: 1 W; (Reverse) Breakdown Voltage: 120 V; (Reverse) Peak Pulse Current: 6500 A; Category: Surge Protection; Match Code: WE-VD; ComponentLink1Description: Website Link; ComponentLink1URL: https://www.we-online.com/redexpert/article/820527501?ad; ComponentLink2Description: Datasheet Link; ComponentLink2URL: https://www.we-online.com/redexpert/spec/820527501?ad; Mount: Through Hole; Min Operating Temperature: -40 °C; Max Operating Temperature: 105 °C; Packaging: Tape and Reel; Width: 5.1 mm; Height: 26.5 mm; Diameter: 23 mm
footprint D23W5.1H26.5P0.8
pins: 1, 2

## 820541021
designator RV?, comment 1000 VAC, 1465 VDC
WE-VD Disk Varistor, D16.5 x H22.5 mm, 1000 VAC, 1465 VDC; Manufacturer Part Number: 820541021; Manufacturer: Wurth Elektronik; Channel Input Capacitance: 150 pF; Clamping Voltage: 2970 V; Energy Absorption: 348 J; Operating Voltage (AC): 1000 V; Operating Voltage (DC): 1465 V; Power Dissipation: 0.6 W; (Reverse) Breakdown Voltage: 1800 V; (Reverse) Peak Pulse Current: 4500 A; Category: Surge Protection; Match Code: WE-VD; ComponentLink1Description: Website Link; ComponentLink1URL: https://www.we-online.com/redexpert/article/820541021?ad; ComponentLink2Description: Datasheet Link; ComponentLink2URL: https://www.we-online.com/redexpert/spec/820541021?ad; Mount: Through Hole; Min Operating Temperature: -40 °C; Max Operating Temperature: 105 °C; Packaging: Tape and Reel; Width: 12.8 mm; Height: 22.5 mm; Diameter: 16.5 mm
footprint D16.5W12.8H22.5P10.2
pins: 1, 2

## 820541311
designator RV?, comment 130 VAC, 170 VDC
WE-VD Disk Varistor, D16.5 x H19.5 mm, 130 VAC, 170 VDC; Manufacturer Part Number: 820541311; Manufacturer: Wurth Elektronik; Channel Input Capacitance: 840 pF; Clamping Voltage: 340 V; Energy Absorption: 57 J; Operating Voltage (AC): 130 V; Operating Voltage (DC): 170 V; Power Dissipation: 0.6 W; (Reverse) Breakdown Voltage: 200 V; (Reverse) Peak Pulse Current: 4500 A; Category: Surge Protection; Match Code: WE-VD; ComponentLink1Description: Website Link; ComponentLink1URL: https://www.we-online.com/redexpert/article/820541311?ad; ComponentLink2Description: Datasheet Link; ComponentLink2URL: https://www.we-online.com/redexpert/spec/820541311?ad; Mount: Through Hole; Min Operating Temperature: -40 °C; Max Operating Temperature: 105 °C; Packaging: Tape and Reel; Width: 4.8 mm; Height: 19.5 mm; Diameter: 16.5 mm
footprint D16.5W4.8H19.5P0.8
pins: 1, 2

## 820541406
designator RV?, comment 14 VAC, 18 VDC
WE-VD Disk Varistor, D16.5 x H19.5 mm, 14 VAC, 18 VDC; Manufacturer Part Number: 820541406; Manufacturer: Wurth Elektronik; Channel Input Capacitance: 11960 pF; Clamping Voltage: 43 V; Energy Absorption: 5.4 J; Operating Voltage (AC): 14 V; Operating Voltage (DC): 18 V; Power Dissipation: 0.1 W; (Reverse) Breakdown Voltage: 22 V; (Reverse) Peak Pulse Current: 1000 A; Category: Surge Protection; Match Code: WE-VD; ComponentLink1Description: Website Link; ComponentLink1URL: https://www.we-online.com/redexpert/article/820541406?ad; ComponentLink2Description: Datasheet Link; ComponentLink2URL: https://www.we-online.com/redexpert/spec/820541406?ad; Mount: Through Hole; Min Operating Temperature: -40 °C; Max Operating Temperature: 105 °C; Packaging: Tape and Reel; Width: 5 mm; Height: 19.5 mm; Diameter: 16.5 mm
footprint D16.5W5H19.5P0.8
pins: 1, 2

## 820542501
designator RV?, comment 25 VAC, 31 VDC
WE-VD Disk Varistor, D16.5 x H19.5 mm, 25 VAC, 31 VDC; Manufacturer Part Number: 820542501; Manufacturer: Wurth Elektronik; Channel Input Capacitance: 7620 pF; Clamping Voltage: 77 V; Energy Absorption: 9.4 J; Operating Voltage (AC): 25 V; Operating Voltage (DC): 31 V; Power Dissipation: 0.1 W; (Reverse) Breakdown Voltage: 39 V; (Reverse) Peak Pulse Current: 1000 A; Category: Surge Protection; Match Code: WE-VD; ComponentLink1Description: Website Link; ComponentLink1URL: https://www.we-online.com/redexpert/article/820542501?ad; ComponentLink2Description: Datasheet Link; ComponentLink2URL: https://www.we-online.com/redexpert/spec/820542501?ad; Mount: Through Hole; Min Operating Temperature: -40 °C; Max Operating Temperature: 105 °C; Packaging: Tape and Reel; Width: 5.2 mm; Height: 19.5 mm; Diameter: 16.5 mm
footprint D16.5W5.2H19.5P0.8
pins: 1, 2

## 820542511
designator RV?, comment 250 VAC, 320 VDC
WE-VD Disk Varistor, D16.5 x H20 mm, 250 VAC, 320 VDC; Manufacturer Part Number: 820542511; Manufacturer: Wurth Elektronik; Channel Input Capacitance: 460 pF; Clamping Voltage: 650 V; Energy Absorption: 120 J; Operating Voltage (AC): 250 V; Operating Voltage (DC): 320 V; Power Dissipation: 0.6 W; (Reverse) Breakdown Voltage: 390 V; (Reverse) Peak Pulse Current: 4500 A; Category: Surge Protection; Match Code: WE-VD; ComponentLink1Description: Website Link; ComponentLink1URL: https://www.we-online.com/redexpert/article/820542511?ad; ComponentLink2Description: Datasheet Link; ComponentLink2URL: https://www.we-online.com/redexpert/spec/820542511?ad; Mount: Through Hole; Min Operating Temperature: -40 °C; Max Operating Temperature: 105 °C; Packaging: Tape and Reel; Width: 5.9 mm; Height: 20 mm; Diameter: 16.5 mm
footprint D16.5W5.9H20P1.1
pins: 1, 2

## 820542711
designator RV?, comment 275 VAC, 350 VDC
WE-VD Disk Varistor, D16.5 x H20 mm, 275 VAC, 350 VDC; Manufacturer Part Number: 820542711; Manufacturer: Wurth Elektronik; Channel Input Capacitance: 450 pF; Clamping Voltage: 710 V; Energy Absorption: 132 J; Operating Voltage (AC): 275 V; Operating Voltage (DC): 350 V; Power Dissipation: 0.6 W; (Reverse) Breakdown Voltage: 430 V; (Reverse) Peak Pulse Current: 4500 A; Category: Surge Protection; Match Code: WE-VD; ComponentLink1Description: Website Link; ComponentLink1URL: https://www.we-online.com/redexpert/article/820542711?ad; ComponentLink2Description: Datasheet Link; ComponentLink2URL: https://www.we-online.com/redexpert/spec/820542711?ad; Mount: Through Hole; Min Operating Temperature: -40 °C; Max Operating Temperature: 105 °C; Packaging: Tape and Reel; Width: 6.7 mm; Height: 20 mm; Diameter: 16.5 mm
footprint D16.5W6.7H20P1.3
pins: 1, 2

## 820543001
designator RV?, comment 30 VAC, 38 VDC
WE-VD Disk Varistor, D16.5 x H19.5 mm, 30 VAC, 38 VDC; Manufacturer Part Number: 820543001; Manufacturer: Wurth Elektronik; Channel Input Capacitance: 6420 pF; Clamping Voltage: 93 V; Energy Absorption: 12 J; Operating Voltage (AC): 30 V; Operating Voltage (DC): 38 V; Power Dissipation: 0.1 W; (Reverse) Breakdown Voltage: 47 V; (Reverse) Peak Pulse Current: 1000 A; Category: Surge Protection; Match Code: WE-VD; ComponentLink1Description: Website Link; ComponentLink1URL: https://www.we-online.com/redexpert/article/820543001?ad; ComponentLink2Description: Datasheet Link; ComponentLink2URL: https://www.we-online.com/redexpert/spec/820543001?ad; Mount: Through Hole; Min Operating Temperature: -40 °C; Max Operating Temperature: 105 °C; Packaging: Tape and Reel; Width: 5.6 mm; Height: 19.5 mm; Diameter: 16.5 mm
footprint D16.5W5.6H19.5P0.8
pins: 1, 2

## 820543011
designator RV?, comment 300 VAC, 385 VDC
WE-VD Disk Varistor, D16.5 x H20 mm, 300 VAC, 385 VDC; Manufacturer Part Number: 820543011; Manufacturer: Wurth Elektronik; Channel Input Capacitance: 420 pF; Clamping Voltage: 775 V; Energy Absorption: 140 J; Operating Voltage (AC): 300 V; Operating Voltage (DC): 385 V; Power Dissipation: 0.6 W; (Reverse) Breakdown Voltage: 470 V; (Reverse) Peak Pulse Current: 4500 A; Category: Surge Protection; Match Code: WE-VD; ComponentLink1Description: Website Link; ComponentLink1URL: https://www.we-online.com/redexpert/article/820543011?ad; ComponentLink2Description: Datasheet Link; ComponentLink2URL: https://www.we-online.com/redexpert/spec/820543011?ad; Mount: Through Hole; Min Operating Temperature: -40 °C; Max Operating Temperature: 105 °C; Packaging: Tape and Reel; Width: 7 mm; Height: 20 mm; Diameter: 16.5 mm
footprint D16.5W7H20P1.5
pins: 1, 2

## 820544211
designator RV?, comment 420 VAC, 560 VDC
WE-VD Disk Varistor, D16.5 x H20.5 mm, 420 VAC, 560 VDC; Manufacturer Part Number: 820544211; Manufacturer: Wurth Elektronik; Channel Input Capacitance: 290 pF; Clamping Voltage: 1120 V; Energy Absorption: 172 J; Operating Voltage (AC): 420 V; Operating Voltage (DC): 560 V; Power Dissipation: 0.6 W; (Reverse) Breakdown Voltage: 680 V; (Reverse) Peak Pulse Current: 4500 A; Category: Surge Protection; Match Code: WE-VD; ComponentLink1Description: Website Link; ComponentLink1URL: https://www.we-online.com/redexpert/article/820544211?ad; ComponentLink2Description: Datasheet Link; ComponentLink2URL: https://www.we-online.com/redexpert/spec/820544211?ad; Mount: Through Hole; Min Operating Temperature: -40 °C; Max Operating Temperature: 105 °C; Packaging: Tape and Reel; Width: 8.2 mm; Height: 20.5 mm; Diameter: 16.5 mm
footprint D16.5W8.2H20.5P2.5
pins: 1, 2